# Altium schematic symbol library AOZ6605PI-1.SchLib: 1 symbol
Pins are listed as number, name and electrical type; pins without a type are passive.

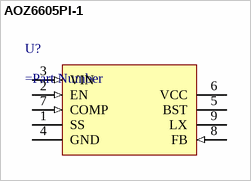
[diagram p0: symbol AOZ6605PI-1]

## AOZ6605PI-1
designator U?
=Description
pins: 1 SS, 2 EN (in), 3 VIN (in), 4 GND (power), 5 BST, 6 VCC (power), 7 COMP (in), 8 FB (in), 9 LX